# EAGLE library part ATXMEGA128A1U (library Atmel)
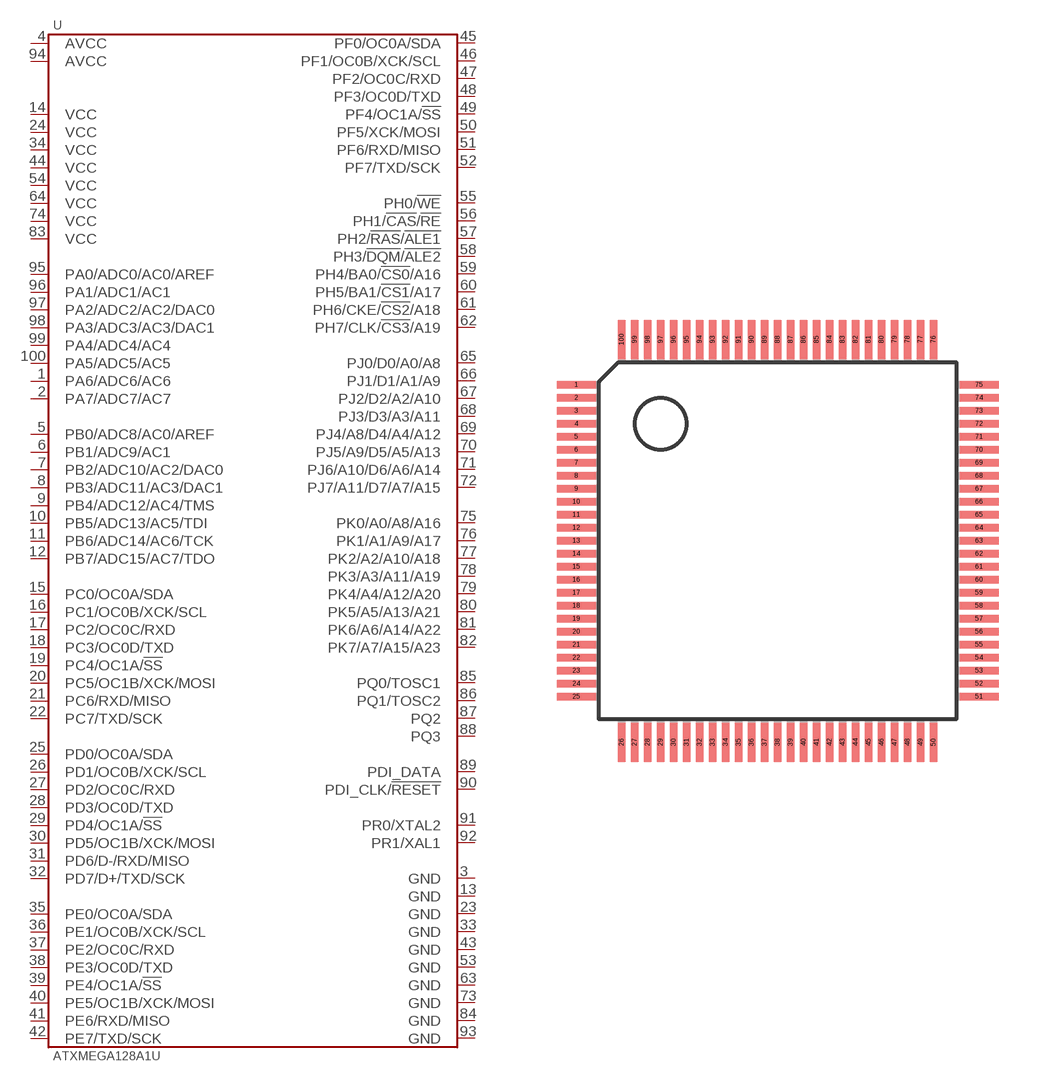
[diagram p10: symbol with the pads of TQFP-100; footprint TQFP-100]

Designator prefix U

## ATXMEGA128A1U-AU  [TQFP-100]
1  PA6/ADC6/AC6
2  PA7/ADC7/AC7
3  GND
4  AVCC
5  PB0/ADC8/AC0/AREF
6  PB1/ADC9/AC1
7  PB2/ADC10/AC2/DAC0
8  PB3/ADC11/AC3/DAC1
9  PB4/ADC12/AC4/TMS
10  PB5/ADC13/AC5/TDI
11  PB6/ADC14/AC6/TCK
12  PB7/ADC15/AC7/TDO
13  GND
14  VCC
15  PC0/OC0A/SDA
16  PC1/OC0B/XCK/SCL
17  PC2/OC0C/RXD
18  PC3/OC0D/TXD
19  PC4/OC1A/!SS
20  PC5/OC1B/XCK/MOSI
21  PC6/RXD/MISO
22  PC7/TXD/SCK
23  GND
24  VCC
25  PD0/OC0A/SDA
26  PD1/OC0B/XCK/SCL
27  PD2/OC0C/RXD
28  PD3/OC0D/TXD
29  PD4/OC1A/!SS
30  PD5/OC1B/XCK/MOSI
31  PD6/D-/RXD/MISO
32  PD7/D+/TXD/SCK
33  GND
34  VCC
35  PE0/OC0A/SDA
36  PE1/OC0B/XCK/SCL
37  PE2/OC0C/RXD
38  PE3/OC0D/TXD
39  PE4/OC1A/!SS
40  PE5/OC1B/XCK/MOSI
41  PE6/RXD/MISO
42  PE7/TXD/SCK
43  GND
44  VCC
45  PF0/OC0A/SDA
46  PF1/OC0B/XCK/SCL
47  PF2/OC0C/RXD
48  PF3/OC0D/TXD
49  PF4/OC1A/!SS
50  PF5/XCK/MOSI
51  PF6/RXD/MISO
52  PF7/TXD/SCK
53  GND
54  VCC
55  PH0/!WE
56  PH1/!CAS!/!RE
57  PH2/!RAS!/!ALE1
58  PH3/!DQM!/!ALE2
59  PH4/BA0/!CS0!/A16
60  PH5/BA1/!CS1!/A17
61  PH6/CKE/!CS2!/A18
62  PH7/CLK/!CS3!/A19
63  GND
64  VCC
65  PJ0/D0/A0/A8
66  PJ1/D1/A1/A9
67  PJ2/D2/A2/A10
68  PJ3/D3/A3/A11
69  PJ4/A8/D4/A4/A12
70  PJ5/A9/D5/A5/A13
71  PJ6/A10/D6/A6/A14
72  PJ7/A11/D7/A7/A15
73  GND
74  VCC
75  PK0/A0/A8/A16
76  PK1/A1/A9/A17
77  PK2/A2/A10/A18
78  PK3/A3/A11/A19
79  PK4/A4/A12/A20
80  PK5/A5/A13/A21
81  PK6/A6/A14/A22
82  PK7/A7/A15/A23
83  VCC
84  GND
85  PQ0/TOSC1
86  PQ1/TOSC2
87  PQ2
88  PQ3
89  PDI_DATA
90  PDI_CLK/!RESET
91  PR0/XTAL2
92  PR1/XAL1
93  GND
94  AVCC
95  PA0/ADC0/AC0/AREF
96  PA1/ADC1/AC1
97  PA2/ADC2/AC2/DAC0
98  PA3/ADC3/AC3/DAC1
99  PA4/ADC4/AC4
100  PA5/ADC5/AC5

## Footprint TQFP-100 (pad centres in mm)
smd 1.5 x 0.27: 1 -7.75,6; 2 -7.75,5.5; 3 -7.75,5; 4 -7.75,4.5; 5 -7.75,4; 6 -7.75,3.5; 7 -7.75,3; 8 -7.75,2.5; 9 -7.75,2; 10 -7.75,1.5; 11 -7.75,1; 12 -7.75,0.5; 13 -7.75,0; 14 -7.75,-0.5; 15 -7.75,-1; 16 -7.75,-1.5; 17 -7.75,-2; 18 -7.75,-2.5; 19 -7.75,-3; 20 -7.75,-3.5; 21 -7.75,-4; 22 -7.75,-4.5; 23 -7.75,-5; 24 -7.75,-5.5; 25 -7.75,-6; 51 7.75,-6; 52 7.75,-5.5; 53 7.75,-5; 54 7.75,-4.5; 55 7.75,-4; 56 7.75,-3.5; 57 7.75,-3; 58 7.75,-2.5; 59 7.75,-2; 60 7.75,-1.5; 61 7.75,-1; 62 7.75,-0.5; 63 7.75,0; 64 7.75,0.5; 65 7.75,1; 66 7.75,1.5; 67 7.75,2; 68 7.75,2.5; 69 7.75,3; 70 7.75,3.5; 71 7.75,4; 72 7.75,4.5; 73 7.75,5; 74 7.75,5.5; 75 7.75,6
smd 0.27 x 1.5: 26 -6,-7.75; 27 -5.5,-7.75; 28 -5,-7.75; 29 -4.5,-7.75; 30 -4,-7.75; 31 -3.5,-7.75; 32 -3,-7.75; 33 -2.5,-7.75; 34 -2,-7.75; 35 -1.5,-7.75; 36 -1,-7.75; 37 -0.5,-7.75; 38 0,-7.75; 39 0.5,-7.75; 40 1,-7.75; 41 1.5,-7.75; 42 2,-7.75; 43 2.5,-7.75; 44 3,-7.75; 45 3.5,-7.75; 46 4,-7.75; 47 4.5,-7.75; 48 5,-7.75; 49 5.5,-7.75; 50 6,-7.75; 76 6,7.75; 77 5.5,7.75; 78 5,7.75; 79 4.5,7.75; 80 4,7.75; 81 3.5,7.75; 82 3,7.75; 83 2.5,7.75; 84 2,7.75; 85 1.5,7.75; 86 1,7.75; 87 0.5,7.75; 88 0,7.75; 89 -0.5,7.75; 90 -1,7.75; 91 -1.5,7.75; 92 -2,7.75; 93 -2.5,7.75; 94 -3,7.75; 95 -3.5,7.75; 96 -4,7.75; 97 -4.5,7.75; 98 -5,7.75; 99 -5.5,7.75; 100 -6,7.75